# Altium schematic symbol library MyComponents.SchLib: 11 symbols
Pins are listed as number, name and electrical type; pins without a type are passive.

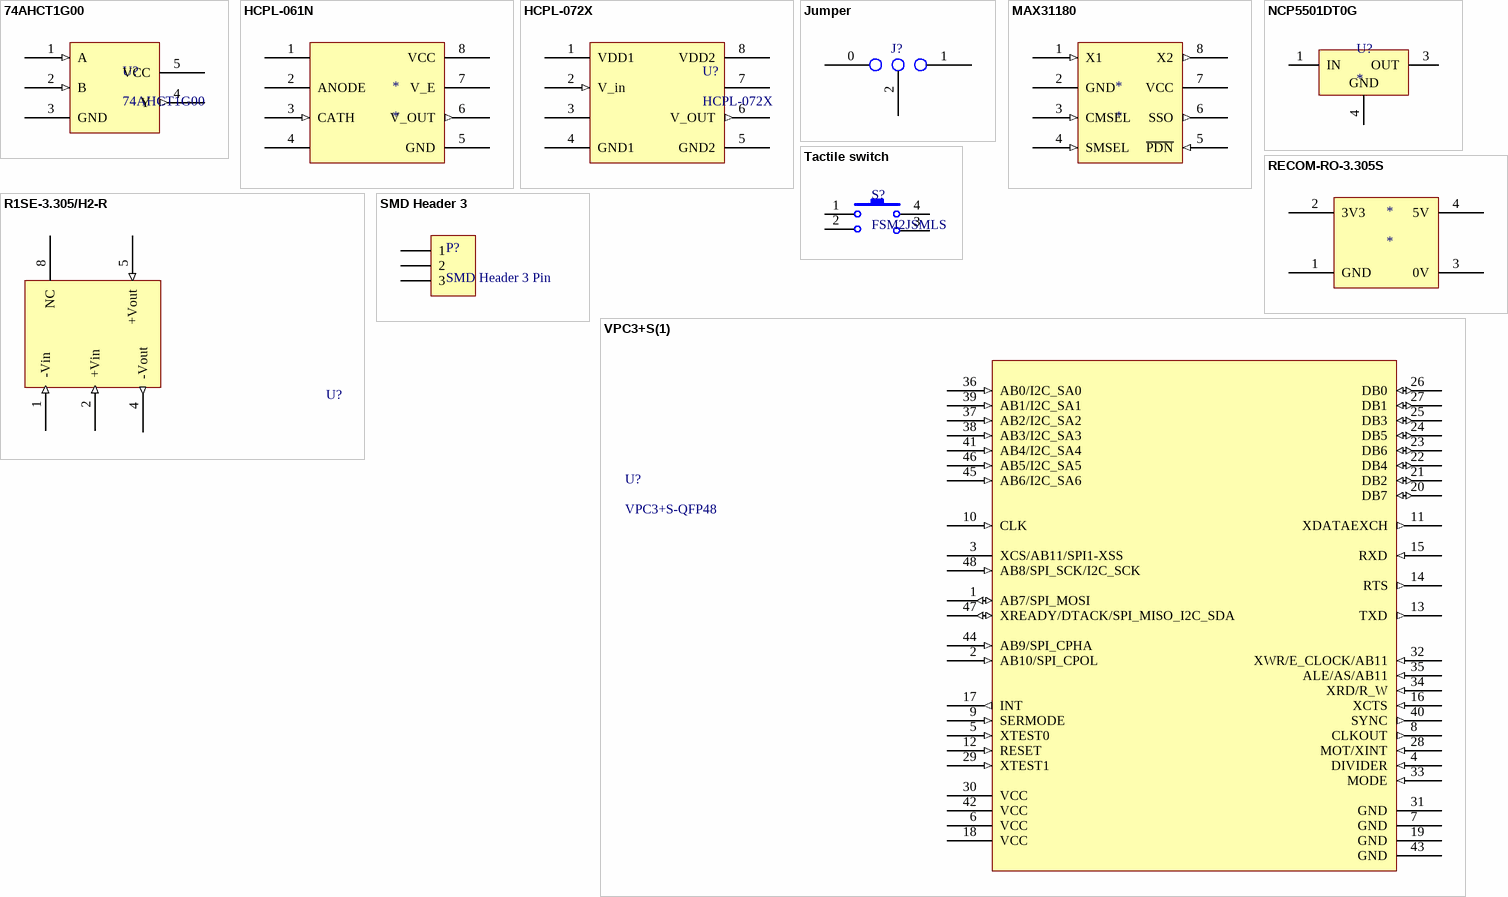
[diagram p0: symbols 74AHCT1G00 to VPC3+S(1)]

## 74AHCT1G00
designator U?
pins: 1 A (in), 2 B (in), 3 GND (power), 4 Y (out), 5 VCC (power)

## HCPL-061N
designator *
footprint HCPL-061N (SOP, 8-Leads, Body 5,08x3,94mm, Pitch 1,27mm, IPC Medium Density)
pins: 1, 2 ANODE (power), 3 CATH (in), 4, 5 GND (power), 6 V_OUT (out), 7 V_E (power), 8 VCC (power)

## HCPL-072X
designator U?
Optocoupler
footprint SOIC127P600X330-8N (SOIC, 8-Leads, Body 5,08x3,94mm, Pitch 1,27mm, IPC Medium Density)
pins: 1 VDD1 (power), 2 V_in (in), 3, 4 GND1 (power), 5 GND2 (power), 6 V_OUT (out), 7, 8 VDD2 (power)

## Jumper
designator J?  (value not drawn)
pins: 0, 1, 2

## MAX31180
designator *
pins: 1 X1 (in), 2 GND, 3 CMSEL (in), 4 SMSEL (in), 5 ~{PDN} (in), 6 SSO (out), 7 VCC (power), 8 X2 (out)

## NCP5501DT0G
designator U?
NCP5501DT50G -  Fixed LDO Voltage Regulator, 2.5V to 16V, 230mV Dropout, 5Vout, 500mAout, TO-252-3; Datasheet: http://www.farnell.com/datasheets/1748771.pdf?_ga=2.156269949.731263013.1500916928-158472119.1495987916
footprint TO-252_N (D-PAK, 4-Leads, Body 6.1x6.5mm, Pitch 2.28mm, Lead Span 9.7mm, IPC Medium Density)
footprint TO-252_M (D-PAK, 4-Leads, Body 6.1x6.5mm, Pitch 2.28mm, Lead Span 9.7mm, IPC Low Density)
footprint TO-252_L (D-PAK, 4-Leads, Body 6.1x6.5mm, Pitch 2.28mm, Lead Span 9.7mm, IPC High Density)
pins: 1 IN (power), 3 OUT (power), 4 GND (power)

## R1SE-3.305/H2-R
designator U?
Isolated DC/DC converter 3.3-5V
footprint Model Name (Footprint not found)
footprint Isolated DC/DC converter (R1SE-3.305/H2-R)
pins: 1 -Vin (in), 2 +Vin (in), 4 -Vout (out), 5 +Vout (in), 8 NC

## RECOM-RO-3.305S
designator *
footprint RECOM-RO-3.305S
pins: 1 GND (power), 2 3V3 (power), 3 0V (power), 4 5V (power)

## SMD Header 3
designator P?, comment SMD Header 3 Pin
M20-8770342 -  Wire-To-Board Connector, Vertical, 2.54 mm, 3 Contacts, Header, M20-87 Series, Surface Mount; ComponentLink1Description: Farnell; ComponentLink1URL: http://hu.farnell.com/harwin/m20-8770342/header-smt-vertical-3way/dp/1517381; ComponentLink2Description: Datasheet; ComponentLink2URL: http://www.farnell.com/datasheets/1836965.pdf?_ga=2.160988283.731263013.1500916928-158472119.1495987916
footprint SMD Header 3Pin (3 pin SMD Header)
pins: 1, 2, 3

## Tactile switch
designator S?, comment FSM2JSMLS
FSM2JSMLS -  Tactile Switch, Illuminated, 24 V, 50 mA, 100 gf, SMD, FSMJSM Series; Mfr1: ALCOSWITCH - TE CONNECTIVITY; Mfr1 PN: FSM2JSMLS; ComponentLink1Description: Farnell; ComponentLink1URL: http://hu.farnell.com/te-connectivity-alcoswitch/fsm2jsmls/tactile-switch-spst-no-0-05a-24v/dp/2610948#anchorTechnicalDOCS; ComponentLink2Description: Datasheet; ComponentLink2URL: http://www.farnell.com/datasheets/2074943.pdf?_ga=2.199799912.731263013.1500916928-158472119.1495987916
footprint Switch (FSM2JSMLS -  Tactile Switch)
pins: 1, 2, 3, 4

## VPC3+S(1)
designator U?, comment VPC3+S-QFP48
pROFIBUS CONTROLLER
footprint TSQFP50P900X900X160-48N (TSQFP, 48-Leads, Body 7,00x7,00mm, Pitch 0,50mm, IPC Medium Density)
pins: 1 AB7/SPI_MOSI (io), 2 AB10/SPI_CPOL (in), 3 XCS/AB11/SPI1-XSS (oe), 4 DIVIDER (in), 5 XTEST0 (in), 6 VCC (power), 7 GND, 8 CLKOUT (out), 9 SERMODE (in), 10 CLK (in), 11 XDATAEXCH (out), 12 RESET (in), 13 TXD (out), 14 RTS (out), 15 RXD (in), 16 XCTS (in), 17 INT (out), 18 VCC (power), 19 GND, 20 DB7 (io), 21 DB2 (io), 22 DB4 (io), 23 DB6 (io), 24 DB5 (io), 25 DB3 (io), 26 DB0 (io), 27 DB1 (io), 28 MOT/XINT (in), 29 XTEST1 (in), 30 VCC (power), 31 GND, 32 XWR/E_CLOCK/AB11 (in), 33 MODE (in), 34 XRD/R_W (in), 35 ALE/AS/AB11 (in), 36 AB0/I2C_SA0 (in), 37 AB2/I2C_SA2 (in), 38 AB3/I2C_SA3 (in), 39 AB1/I2C_SA1 (in), 40 SYNC (out), 41 AB4/I2C_SA4 (in), 42 VCC (power), 43 GND, 44 AB9/SPI_CPHA (in), 45 AB6/I2C_SA6 (in), 46 AB5/I2C_SA5 (in), 47 XREADY/DTACK/SPI_MISO_I2C_SDA (io), 48 AB8/SPI_SCK/I2C_SCK (in)